# Altium schematic symbol library SCH - POWER - LINEAR VREG - TI TLV1117-15_KVU_3.SchLib: 1 symbol
Pins are listed as number, name and electrical type; pins without a type are passive.

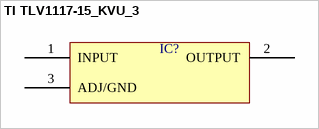
[diagram p0: symbol TI TLV1117-15_KVU_3]

## TI TLV1117-15_KVU_3
designator IC?  (value not drawn)
pins: 1 INPUT, 2 OUTPUT, 3 ADJ/GND